# EAGLE library part NE566 (library PWM)
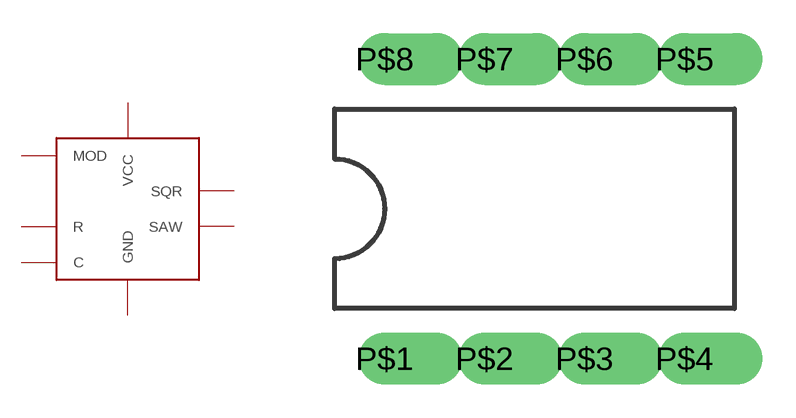
[diagram p4: symbol with the pads of DIL8; footprint DIL8]

Designator prefix -

## NE566  [DIL8]
P$1  GND
P$3  SQR
P$4  SAW
P$5  MOD
P$6  R
P$7  C
P$8  VCC

## Footprint DIL8 (pad centres in mm)
drill 0.813 offset: P$1 -3.81,-3.81; P$2 -1.27,-3.81; P$3 1.27,-3.81; P$4 3.81,-3.81; P$5 3.81,3.81; P$6 1.27,3.81; P$7 -1.27,3.81; P$8 -3.81,3.81